# EAGLE library part RPA60-2412SFW/P (library dc-dc-converter)
12VOUT Isolated DCDC
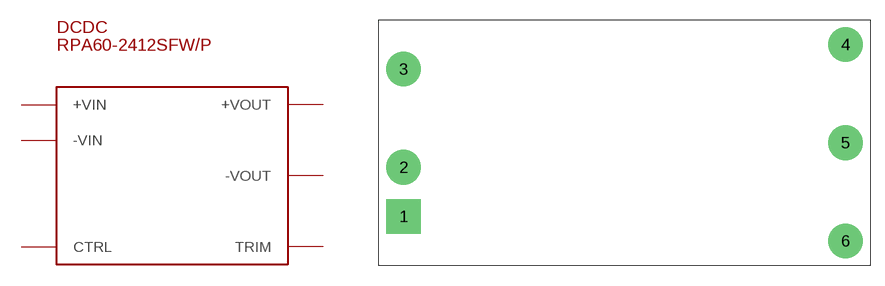
[diagram p8: symbol with the pads of RPA60-2412SFW/P; footprint RPA60-2412SFW/P]

Designator prefix DCDC

## RPA60-2412SFW/P  [RPA60-2412SFW/P]
1  +VIN
2  -VIN
3  CTRL
4  TRIM
5  -VOUT
6  +VOUT

## Footprint RPA60-2412SFW/P (pad centres in mm)
drill 1.4 pad 3.6 square: 1 -22.86,-7.62
drill 1.4 pad 3.6: 2 -22.86,-2.54; 3 -22.86,7.62; 4 22.86,10.16; 5 22.86,0; 6 22.86,-10.16